# Altium footprint library CH340.PcbLib: 1 footprints
Each footprint in its own frame and in the unit in brackets; x right, y up, seen from the top. Pads: shape width x height; smd on the part's side, far side on the other; paste and mask are expansions set on the pad; w line width, h text height; cw(c..) or ccw(c..) is an arc to the next point about the centre after c.
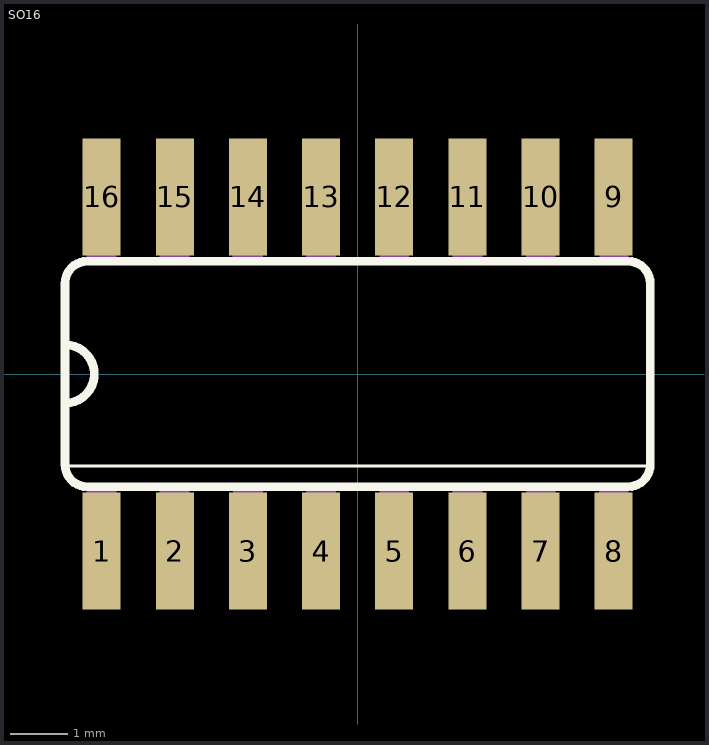
[diagram p0: the footprint, top view; thin cyan lines are the x and y axes]

## SO16 [mil]
pads (16):
  rect 26x80 smd: 1(-175,-121) 2(-125,-121) 3(-75,-121) 4(-25,-121) 5(25,-121) 6(75,-121) 7(125,-121) 8(175,-121) 9(175,121) 10(125,121) 11(75,121) 12(25,121) 13(-25,121) 14(-75,121) 15(-125,121) 16(-175,121)
Top Overlay:
  lines w2: -200,-63 200,-63
  lines w6: -200,-20 ccw(c-200,0) -200,20 ; -200,-20 -200,-62 ccw(c-185,-62) -185,-77 185,-77 ccw(c185,-62) 200,-62 200,62 ccw(c185,62) 185,77 -185,77 ccw(c-185,62) -200,62 -200,20 ; -200,-20 -200,20
Mechanical 1:
  region: 165.32,122 185,122 185,77.15 165.32,77.15
  region: 115.25,122 135,122 135,77.17 115.25,77.17
  region: 65.16,122 85,122 85,77.19 65.16,77.19
  region: 15.04,122 35,122 35,77.22 15.04,77.22
  region: 165.1,-77 185,-77 185,-122.07 165.1,-122.07
  region: 115.39,-77 135,-77 135,-122.41 115.39,-122.41
  region: 65.12,-77 85,-77 85,-122.22 65.12,-122.22
  region: 15.02,-77 35,-77 35,-122.19 15.02,-122.19
  region: -185.02,122 -165,122 -165,77.01 -185.02,77.01
  region: -135.37,122 -115,122 -115,77.21 -135.37,77.21
  region: -85.29,122 -65,122 -65,77.26 -85.29,77.26
  region: -35.07,-77 -15,-77 -15,-122.24 -35.07,-122.24
  region: -85.16,-76 -65,-76 -65,-121.22 -85.16,-121.22
  region: -135.4,-77 -115,-77 -115,-122.36 -135.4,-122.36
  region: -185.18,-77 -165,-77 -165,-122.12 -185.18,-122.12
  region: -35.1,122 -15,122 -15,77.23 -35.1,77.23